# EAGLE library part YICMAXCR3032 (library Traficon)
XILINX XCR3032XL
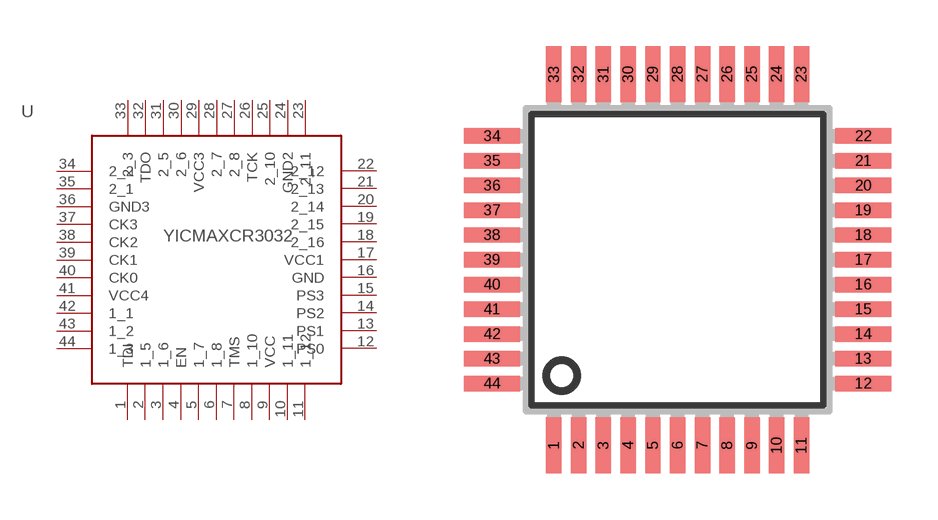
[diagram p12: symbol with the pads of SQFP-S-10X10-44; footprint SQFP-S-10X10-44]

Designator prefix U

## YICMAXCR3032  [SQFP-S-10X10-44]
1  TDI
2  1_5
3  1_6
4  EN
5  1_7
6  1_8
7  TMS
8  1_10
9  VCC  pas
10  1_11
11  1_12
12  PS0
13  PS1
14  PS2
15  PS3
16  GND  pas
17  VCC1  pas
18  2_16
19  2_15
20  2_14
21  2_13
22  2_12
23  2_11
24  GND2  pas
25  2_10
26  TCK
27  2_8
28  2_7
29  VCC3  pas
30  2_6
31  2_5
32  TDO
33  2_3
34  2_2
35  2_1
36  GND3  pas
37  CK3
38  CK2
39  CK1
40  CK0
41  VCC4  pas
42  1_1
43  1_2
44  1_3

## Footprint SQFP-S-10X10-44 (pad centres in mm)
QFP44 shrink quad flat pack, square
smd 0.5 x 1.8: 1 -4,-6; 2 -3.2,-6; 3 -2.4,-6; 4 -1.6,-6; 5 -0.8,-6; 6 0,-6; 7 0.8,-6; 8 1.6,-6; 9 2.4,-6; 10 3.2,-6; 11 4,-6; 23 4,6; 24 3.2,6; 25 2.4,6; 26 1.6,6; 27 0.8,6; 28 0,6; 29 -0.8,6; 30 -1.6,6; 31 -2.4,6; 32 -3.2,6; 33 -4,6
smd 1.8 x 0.5: 12 6,-4; 13 6,-3.2; 14 6,-2.4; 15 6,-1.6; 16 6,-0.8; 17 6,0; 18 6,0.8; 19 6,1.6; 20 6,2.4; 21 6,3.2; 22 6,4; 34 -6,4; 35 -6,3.2; 36 -6,2.4; 37 -6,1.6; 38 -6,0.8; 39 -6,0; 40 -6,-0.8; 41 -6,-1.6; 42 -6,-2.4; 43 -6,-3.2; 44 -6,-4